# Altium footprint library 3.15-保险丝.PcbLib: 11 footprints
Each footprint in its own frame and in the unit in brackets; x right, y up, seen from the top. Pads: shape width x height; smd on the part's side, far side on the other; paste and mask are expansions set on the pad; w line width, h text height; cw(c..) or ccw(c..) is an arc to the next point about the centre after c.
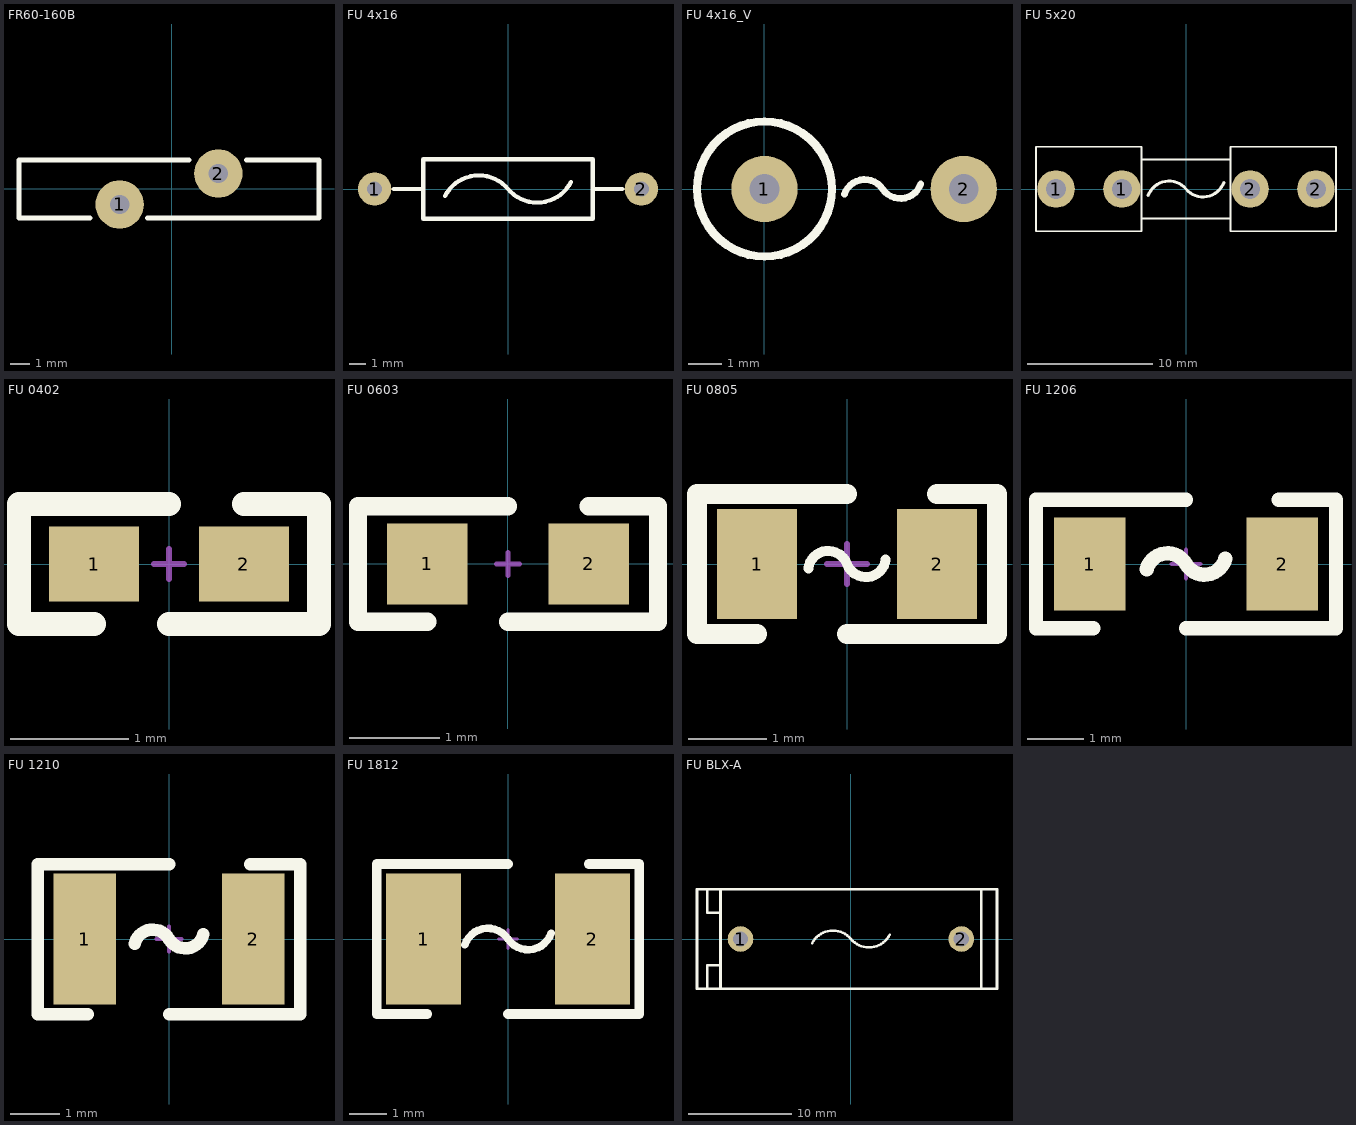
[diagram p0: the footprints below, top view; thin cyan lines are the x and y axes]

## FR60-160B [mm] "直径15.5mm，厚度3mm，脚距5.1mm      [ PCB学习群514746572 ]"
pads (2):
  round 2.5 hole 1: 1(-2.7,-0.8) 2(2.4,0.8)
Top Overlay:
  lines w0.254: -4.216,-1.5 -7.899,-1.5 -7.899,1.5 0.889,1.499 ; -1.27,-1.499 7.601,-1.5 7.601,1.5 3.861,1.499
3D body "RF60-160B.STEP": height 18.5, standoff -3.5, extent -7.899,-1.5 7.601,1.5

## FU 4x16 [mm] "4*16mm(直径，脚距）      [ PCB学习群514746572 ]"
pads (2):
  round 2 hole 0.9: 1(-8,0) 2(8,0)
Top Overlay:
  lines w0.254: -6.858,0 -5.08,0 ; -3.782,-0.419 cw(c-1.751,-1.469) 0,0 ccw(c1.751,1.469) 3.782,0.419 ; 5.08,0 6.858,0 ; -5.08,-1.778 -5.08,1.778 5.08,1.778 5.08,-1.778 -5.08,-1.778
3D body "FU_4x16.STEP": height 3.95, standoff -3.55, extent -8.3,-1.95 8.3,1.95

## FU 4x16_V [mm] "4*16mm(直径，脚距）      [ PCB学习群514746572 ]"
pads (2):
  round 2 hole 0.9: 1(0,0) 2(6,0)
Top Overlay:
  circle w0.254: c0,0 r2.032
  lines w0.203: 2.406,-0.156 cw(c3.019,-0.362) 3.556,0 ccw(c4.093,0.362) 4.706,0.156
3D body "FU_4x16_v.STEP": height 13.1, standoff -3.5, extent -2,-2 6.3,2

## FU 5x20 [mm] "5*20保险管底座夹子      [ PCB学习群514746572 ]"
pads (4):
  round 3 hole 1.6: 1(-10.4,0) 1(-5.13,0) 2(5.13,0) 2(10.4,0)
Top Overlay:
  lines w0.15: -3.556,-2.35 3.556,-2.35 ; -3.556,2.35 3.556,2.35 ; -12,-3.38 -3.556,-3.38 -3.556,3.38 -12,3.38 -12,-3.38 ; 3.556,-3.38 12,-3.38 12,3.38 3.556,3.38 3.556,-3.38
  lines w0.254: -3.027,-0.52 cw(c-1.362,-1.143) 0,0 ccw(c1.362,1.143) 3.027,0.52
3D body "FU_5x20.STEP": height 9.77, standoff -3.6, extent -10.8,-3.15 10.8,3.15

## FU 0402 [mil] "贴片保险丝      [ PCB学习群514746572 ]"
pads (2):
  rect 30x25 smd: 1(-25,0) 2(25,0)
Top Overlay:
  lines w8: -25,-20 -50,-20 -50,20 -40,20 -25,20 0,20 ; 0,-20 25,-20 50,-20 50,20 25,20
Mechanical 15:
  lines w2: -5,0 5,0 ; 0,-5 0,5
3D body "FU_0402.STEP": height 14.57, standoff 0, extent -19.68,-10.23 19.69,10.24

## FU 0603 [mil] "贴片保险丝      [ PCB学习群514746572 ]"
pads (2):
  rect 35x35 smd: 1(-35,0) 2(35,0)
Top Overlay:
  lines w8: -35,-25 -65,-25 -65,25 -40,25 0,25 ; 0,-25 40,-25 65,-25 65,25 35,25
Mechanical 15:
  lines w2: -5,0 5,0 ; 0,-5 0,0 0,5
3D body "FU_0603.STEP": height 20.47, standoff 0, extent -31.49,-16.13 31.5,16.15

## FU 0805 [mil] "贴片保险丝      [ PCB学习群514746572 ]"
pads (2):
  rect 40x55 smd: 1(-45,0) 2(45,0)
Top Overlay:
  lines w5: -19.33,-2.28 cw(c-9.4,-3.42) 0,0 ccw(c9.4,3.42) 19.33,2.28
  lines w10: -45,-35 -75,-35 -75,35 -45,35 0,35 ; 0,-35 60,-35 ; 45,35 75,35 75,-35 50,-35
Mechanical 15:
  lines w3: -10,0 10,0 ; 0,-10 0,10
3D body "FU_0805.STEP": height 20.47, standoff 0, extent -39.36,-24.01 39.38,24.02

## FU 1206 [mil] "贴片保险丝      [ PCB学习群514746572 ]"
pads (2):
  rect 50x65 smd: 1(-67.5,0) 2(67.5,0)
Top Overlay:
  lines w10: -90,45 0,45 ; -65,-45 -105,-45 -105,45 -65,45 ; -27.48,-3.62 cw(c-12.99,-7.5) 0,0 ccw(c12.99,7.5) 27.48,3.62 ; 0,-45 90,-45 ; 65,-45 105,-45 105,45 65,45
Mechanical 15:
  lines w3: -10,0 10,0 ; 0,-10 0,10
3D body "FU_1206.STEP": height 34.25, standoff 0, extent -62.99,-31.89 63,31.9

## FU 1210 [mil] "贴片保险丝      [ PCB学习群514746572 ]"
pads (2):
  rect 50x105 smd: 1(-67.5,0) 2(67.5,0)
Top Overlay:
  lines w10: -90,60 0,60 ; -65,-60 -105,-60 -105,60 -65,60 ; -27.48,-3.62 cw(c-12.99,-7.5) 0,0 ccw(c12.99,7.5) 27.48,3.62 ; 0,-60 90,-60 ; 65,-60 105,-60 105,60 65,60
Mechanical 15:
  lines w3: -10,0 10,0 ; 0,-10 0,10
3D body "FU_1210.STEP": height 34.25, standoff 0, extent -62.98,-50.39 63,50.4

## FU 1812 [mm] "贴片保险丝      [ PCB学习群514746572 ]"
pads (2):
  rect 2x3.5 smd: 1(-2.25,0) 2(2.25,0)
Top Overlay:
  lines w0.203: -1.15,-0.156 cw(c-0.537,-0.362) 0,0 ccw(c0.537,0.362) 1.15,0.156
  lines w0.254: -2.159,-2 -3.5,-2 -3.5,2 0,2 ; 0,-2 3.5,-2 3.5,2 2.159,2
Mechanical 15:
  lines w0.076: -0.254,0 0.254,0 ; 0,-0.254 0,0.254
3D body "FU_1812.STEP": height 0.87, standoff 0, extent -2.3,-1.61 2.3,1.61

## FU BLX-A [mm] "BLX-A型保险丝座      [ PCB学习群514746572 ]"
pads (2):
  round 2.5 hole 1.5: 1(-10.75,0) 2(10.75,0)
Top Overlay:
  lines w0.254: -12.7,-4.826 -12.7,-2.54 ; -12.7,4.826 -12.7,2.54 ; -3.782,-0.419 cw(c-1.751,-1.469) 0,0 ccw(c1.751,1.469) 3.782,0.419 ; 12.446,-4.826 14.224,-4.826 14.224,4.826 12.7,4.826 ; -13.97,-4.826 -14.986,-4.826 -14.986,4.826 -13.97,4.826 ; -13.97,-4.826 12.7,-4.826 12.7,4.826 ; -13.97,-4.826 -13.97,-2.54 -12.7,-2.54 ; -13.97,4.826 12.7,4.826 ; -13.97,4.826 -13.97,2.54 -12.7,2.54 ; -12.7,-2.54 -12.7,2.54
3D body "FU_BLX.STEP": height 13.9, standoff -3.6, extent -15.05,-4.75 14.3,4.75